# Altium schematic symbol library Connectors.SchLib: 95 symbols (part 2 of 2)
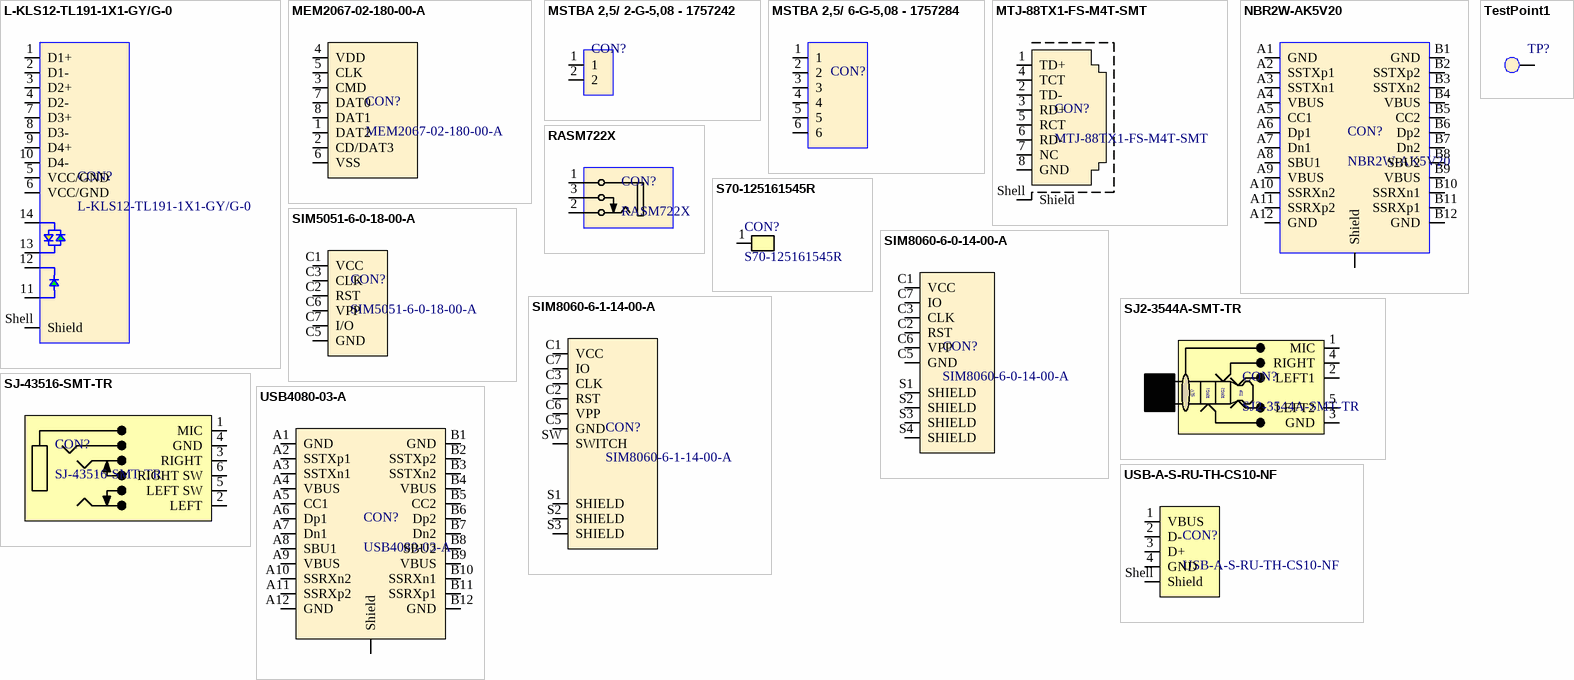
[diagram p3: symbols L-KLS12-TL191-1X1-GY/G-0 to USB-A-S-RU-TH-CS10-NF]

## SJ-43516-SMT-TR
designator CON?
3.5 mm, 4 Conductors, Right Angle, Surface Mount (SMT), Audio Jack Connector; Manufacturer: CUI Devices; Gender: Female; Current Rating: 1A; Number of Contacts: 6; Purpose Of Usage: BASIC; Supplier 1: Digi-Key; Manufacturer Part Number: SJ-43516-SMT-TR; RoHS: Yes; Category: CONNECTORS; Contact Plating: Silver; Color: Black; Orientation: Horizontal; Lead Free: Lead Free; Supplier Part Number 1: CP-43516SJTR-ND; Mount: SMD; Sub-Category: AUDIO JACK; Stock ID: ??
footprint SJ-43516-SMT-TR
pins: 1 MIC, 2 LEFT, 3 RIGHT, 4 GND, 5 LEFT SW, 6 RIGHT SW

## TestPoint1
designator TP?  (value not drawn)  (no BOM)
test ölçüm noktası; Manufacturer: NO BOM DEVICE; Purpose Of Usage: BASIC; Category: CONNECTORS; Sub-Category: TEST POINT; Manufacturer Part Number: NO BOM DEVICE; Stock ID: ??
footprint SMD_2mmPoint
footprint Hole_0.5
footprint SMD_1mmPoint
pins: 1

## USB4080-03-A
designator CON?
USB Type C Rec, 3 Horizontal, SMT, Top mnt, 7.9mm body; Manufacturer: Global Connector Technology; Gender: Receptacle; Purpose Of Usage: BASIC; Supplier 1: Future Electronics; Manufacturer Part Number: USB4080-03-A; RoHS: Yes; Category: CONNECTORS; Supplier Part Number 1: 5146382; Orientation: Right Angle; Sub-Category: USB Type-C; Mount: SMD; Local Supplier: FUTURE; Price 10K: 0.463; Stock ID: ??
footprint GCT_USB4080-03-A_REVA1
pins: A1 GND, A2 SSTXp1, A3 SSTXn1, A4 VBUS, A5 CC1, A6 Dp1, A7 Dn1, A8 SBU1, A9 VBUS, A10 SSRXn2, A11 SSRXp2, A12 GND, B1 GND, B2 SSTXp2, B3 SSTXn2, B4 VBUS, B5 CC2, B6 Dp2, B7 Dn2, B8 SBU2, B9 VBUS, B10 SSRXn1, B11 SSRXp1, B12 GND, G Shield

## USB-A-S-RU-TH-CS10-NF
designator CON?
USB 2.0 Type A Receptacle WR-COM, Up Right, THT, Short Type USB-A-S-RU-TH-CS10-NF; Manufacturer: ADAM TECH; Number of Contacts: 4; Purpose Of Usage: BASIC; Supplier 1: Future Electronics; Manufacturer Part Number: USB-A-S-RU-TH-CS10-NF; RoHS: Yes; Category: CONNECTORS; Contact Plating: Gold; Min Operating Temperature: -40°C; Max Operating Temperature: 85°C; Gender: Receptacle; Orientation: Right Angle; Supplier Part Number 1: USB-A-S-RU-TH-CS10-NF; Local Supplier: FUTURE; Mount: THT; Stock ID: ??; Sub-Category: USB; Price 10K: 0.27
footprint 614004184726 (USB 2.0 Type A Up Right THT)
pins: 1 VBUS, 2 D-, 3 D+, 4 GND, Shell Shield